# EAGLE library part 1X8_HEADER (library CONNECTORs)
A 1 row, 8 column, 8 pin 0.1" header.
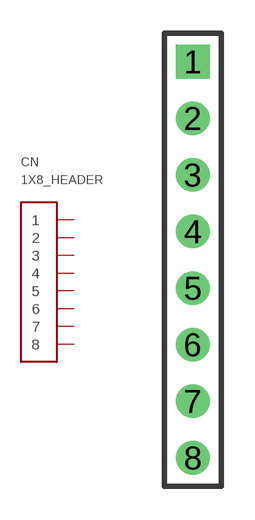
[diagram p0: symbol with the pads of 8PIN_HEADER; footprint 8PIN_HEADER]

Designator prefix CN

## 1X8_HEADERSIL  [8PIN_HEADER]
1  1
2  2
3  3
4  4
5  5
6  6
7  7
8  8

## Footprint 8PIN_HEADER (pad centres in mm)
drill 1 pad 1.5 square: 1 0,8.89
drill 1 pad 1.5: 2 0,6.35; 3 0,3.81; 4 0,1.27; 5 0,-1.27; 6 0,-3.81; 7 0,-6.35; 8 0,-8.89